# Altium footprint library CAP-ELECTRO-SMD_SIZE_G.PcbLib: 1 footprints
Each footprint in its own frame and in the unit in brackets; x right, y up, seen from the top. Pads: shape width x height; smd on the part's side, far side on the other; paste and mask are expansions set on the pad; w line width, h text height; cw(c..) or ccw(c..) is an arc to the next point about the centre after c.
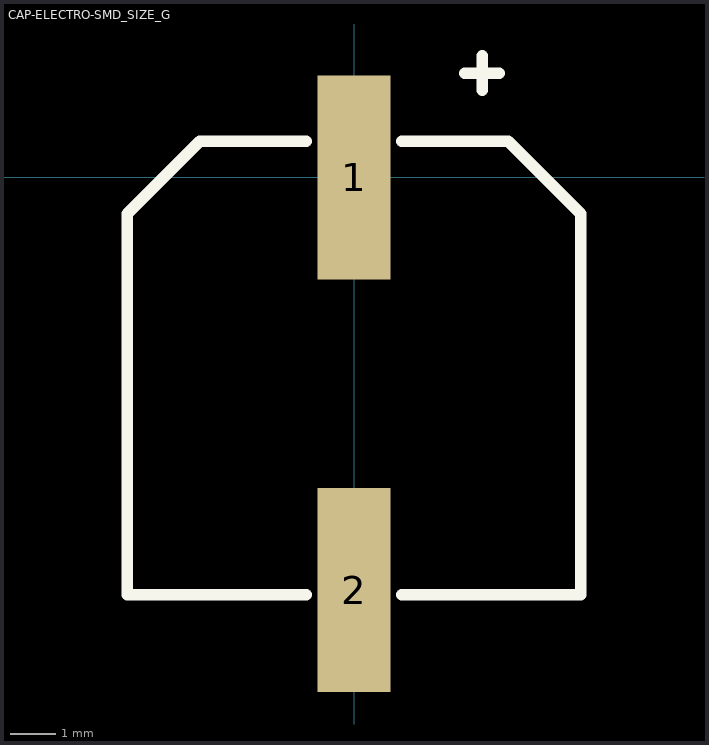
[diagram p0: the footprint, top view; thin cyan lines are the x and y axes]

## CAP-ELECTRO-SMD_SIZE_G [mm]
pads (2):
  rect 1.6x4.5 smd: 1(0,0) 2(0,-9.1)
Top Overlay:
  lines w0.254: -1.055,-9.2 -5,-9.2 -5,-0.8 -3.4,0.8 -1.055,0.8 ; 1.055,-9.2 5,-9.2 5,-0.8 3.4,0.8 1.055,0.8 ; 2.444,2.302 3.206,2.302 ; 2.825,1.921 2.825,2.683
3D body: height 10.21, standoff -0.01, extent -5.1,-10 5.2,1.6